# EAGLE library part SI4435DDY (library si4435ddy)
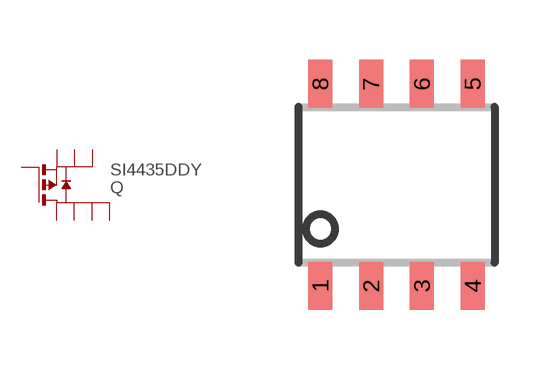
[diagram p0: symbol with the pads of SO-8; footprint SO-8]

Designator prefix Q

## SI4435DDY  [SO-8]
1  S  pas
2  S  pas
3  S  pas
4  G  pas
5  D  pas
6  D  pas
7  D  pas
8  D  pas

## Footprint SO-8 (pad centres in mm)
smd 0.6 x 1.2: 1 -1.905,-2.527; 2 -0.635,-2.527; 3 0.635,-2.527; 4 1.905,-2.527; 5 1.905,2.527; 6 0.635,2.527; 7 -0.635,2.527; 8 -1.905,2.527